# EAGLE library part CP2130 (library CP2130)
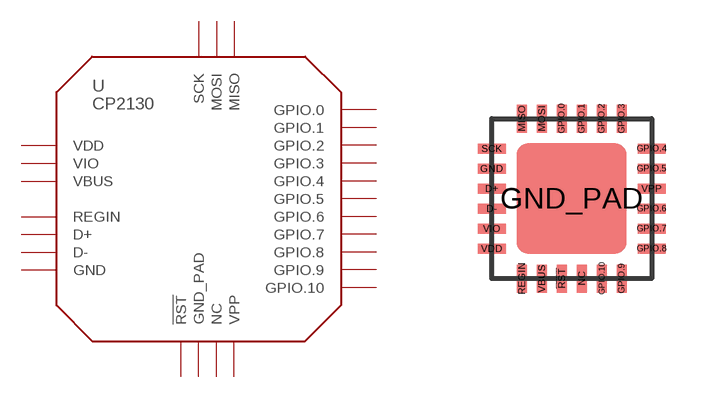
[diagram p0: symbol with the pads of CP2130; footprint CP2130]

Designator prefix -

## CP2130  [CP2130]
!RST  !RST
D+  D+
D-  D-
GND  GND  pwr
GND_PAD  GND_PAD  pwr
GPIO.0  GPIO.0
GPIO.1  GPIO.1
GPIO.2  GPIO.2
GPIO.3  GPIO.3
GPIO.4  GPIO.4
GPIO.5  GPIO.5
GPIO.6  GPIO.6
GPIO.7  GPIO.7
GPIO.8  GPIO.8
GPIO.9  GPIO.9
GPIO.10  GPIO.10
MISO  MISO
MOSI  MOSI
NC  NC  nc
REGIN  REGIN  pwr
SCK  SCK
VBUS  VBUS  pwr
VDD  VDD  pwr
VIO  VIO  pwr
VPP  VPP  pwr

## Footprint CP2130 (pad centres in mm)
smd 0.25 x 0.7: !RST -0.25,-2; GPIO.0 -0.25,2; GPIO.1 0.25,2; GPIO.2 0.75,2; GPIO.3 1.25,2; GPIO.9 1.25,-2; GPIO.10 0.75,-2; MISO -1.25,2; MOSI -0.75,2; NC 0.25,-2; REGIN -1.25,-2; VBUS -0.75,-2
smd 0.7 x 0.25: D+ -2,0.25; D- -2,-0.25; GND -2,0.75; GPIO.4 2,1.25; GPIO.5 2,0.75; GPIO.6 2,-0.25; GPIO.7 2,-0.75; GPIO.8 2,-1.25; SCK -2,1.25; VDD -2,-1.25; VIO -2,-0.75; VPP 2,0.25
smd 2.75 x 2.75: GND_PAD 0,0